# Altium footprint library SN74LVC138ARGYR.PcbLib: 1 footprints
Each footprint in its own frame and in the unit in brackets; x right, y up, seen from the top. Pads: shape width x height; smd on the part's side, far side on the other; paste and mask are expansions set on the pad; w line width, h text height; cw(c..) or ccw(c..) is an arc to the next point about the centre after c.
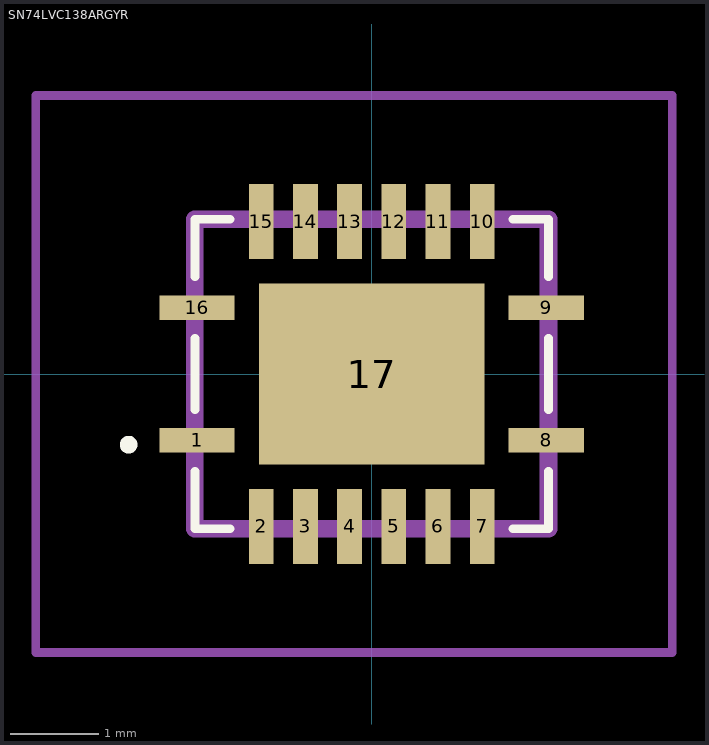
[diagram p0: the footprint, top view; thin cyan lines are the x and y axes]

## SN74LVC138ARGYR [mm]
pads (17):
  rect 0.85x0.28 smd: 1(-1.975,-0.75) 8(1.975,-0.75) 9(1.975,0.75) 16(-1.975,0.75)
  rect 0.28x0.85 smd: 2(-1.25,-1.725) 3(-0.75,-1.725) 4(-0.25,-1.725) 5(0.25,-1.725) 6(0.75,-1.725) 7(1.25,-1.725) 10(1.25,1.725) 11(0.75,1.725) 12(0.25,1.725) 13(-0.25,1.725) 14(-0.75,1.725) 15(-1.25,1.725)
  rect 2.55x2.05 smd: 17(0,0)
Top Overlay:
  lines w0.1: -2,-1.1 -2,-1.75 -1.6,-1.75 ; -2,-0.4 -2,0.4 ; -2,1.1 -2,1.75 -1.6,1.75 ; 1.6,-1.75 2,-1.75 2,-1.1 ; 1.6,1.75 2,1.75 2,1.1 ; 2,-0.4 2,0.4 ; -2.8,-0.8 cw(c-2.75,-0.8) -2.7,-0.8 cw(c-2.75,-0.8) -2.8,-0.8
Mechanical 15:
  lines w0.2: -2,-1.75 2,-1.75 2,1.75 -2,1.75 -2,-1.75
Mechanical 20:
  lines w0.1: -3.8,-3.15 3.4,-3.15 3.4,3.15 -3.8,3.15 -3.8,-3.15
3D body "SN74LVC138ARGYR.stp": height 1, standoff 0, extent -2,-1.75 2,1.75